# EAGLE library part MCP3423 (library thermo)
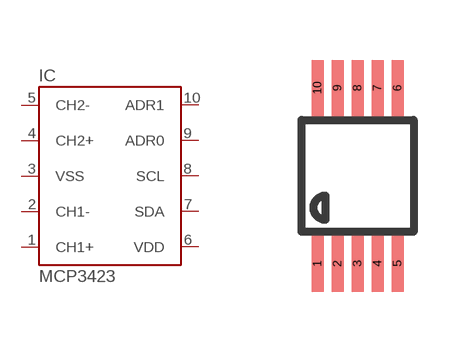
[diagram p4: symbol with the pads of MSOP10; footprint MSOP10]

Designator prefix IC

## MCP3423  [MSOP10]
1  CH1+
2  CH1-
3  VSS
4  CH2+
5  CH2-
6  VDD
7  SDA
8  SCL
9  ADR0
10  ADR1

## Footprint MSOP10 (pad centres in mm)
10-Lead Mini Small Outline Package [MSOP] (RM-10) Source: http://www.analog.com/UploadedFiles/Data_Sheets/35641221898805SSM2167_b.pdf COMPLIANT TO JEDEC STANDARDS MO-187BA
smd 0.3 x 1.4: 1 -1,-2.2; 2 -0.5,-2.2; 3 0,-2.2; 4 0.5,-2.2; 5 1,-2.2; 6 1,2.2; 7 0.5,2.2; 8 0,2.2; 9 -0.5,2.2; 10 -1,2.2